# EAGLE library part 750811330 (library Wurth_Power Magnetics_WE-OLLT)
WE-OLLT Offline Flyback Transformers Characteristics Flyback topology Designs for Universal, US and European input voltages Low leakage inductance Isolation voltage up to 4500VAC Operating temperature: –40 °C to +125 °C Most products meet reinforced insulation Applications Offline Applications High DC VIN Isolated Applications Offline Bus Converter (12V, 24V or 48V Outputs) Industrial power supplies Medical power supplies Auxiliary power supply Home appliances Consumer electronics <https://www.we-online.com/components/media/o784499v209%20FAMILY-MID-OLLT-mixed.jpg> Details see: www.we-online.com/en/components/products/WE-OLLT <www.we-online.com/catalog/WE-OLLT/?utm_source=eagle_model&utm_medium=description_link&utm_campaign=eisos_eagle> Created by Ella Wu 2024-07-03 2024 (C) Wurth Elektronik
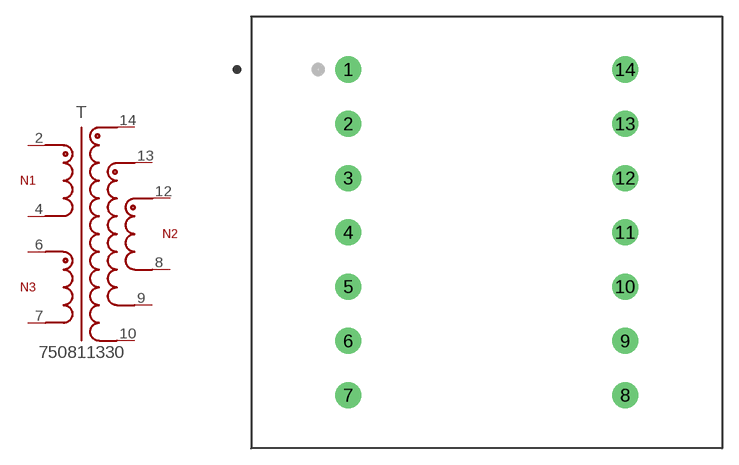
[diagram p11: symbol with the pads of WE-OLLT_ETD34_L39.6W43.18H30.48_PAD1.6; footprint WE-OLLT_ETD34_L39.6W43.18H30.48_PAD1.6]

Designator prefix T

## 750811330 (DATASHEET-URL: https://www.we-online.com/redexpert/spec/750811330?ae; FSWITCH: 200kHz; HEIGHT: 30.48mm; IOUT1: 5000A; ISAT: 4000V; L: 0.3uH; LENGTH: 39.6mm; MOUNT: THT; N: 6:1:1; PART-NUMBER: 750811330; SIZE: ETD34; VALUE: 750811330; VAUX: 18V; VIN: 85 - 265 V (AC); VOUT1: 18V; VT: 4500V(AC); WIDTH: 43.18mm)  [WE-OLLT_ETD34_L39.6W43.18H30.48_PAD1.6]
2  2  pas
4  4  pas
6  6  pas
7  7  pas
8  8  pas
9  9  pas
10  10  pas
12  12  pas
13  13  pas
14  14  pas

## Footprint WE-OLLT_ETD34_L39.6W43.18H30.48_PAD1.6 (pad centres in mm)
WE-OLLT Offline Flyback Transformers Size: ETD34,THT,14pins LXWXH=39.6X43.18X30.48mm
drill 1.6: 1 -12.75,15; 2 -12.75,10; 3 -12.75,5; 4 -12.75,0; 5 -12.75,-5; 6 -12.75,-10; 7 -12.75,-15; 8 12.75,-15; 9 12.75,-10; 10 12.75,-5; 11 12.75,0; 12 12.75,5; 13 12.75,10; 14 12.75,15